# Altium schematic symbol library CP2102N-A02-GQFN20.Schlib: 1 symbol
Pins are listed as number, name and electrical type; pins without a type are passive.

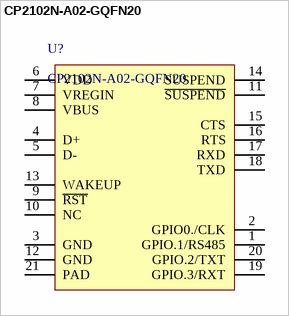
[diagram p0: symbol CP2102N-A02-GQFN20]

## CP2102N-A02-GQFN20
designator U?
USB Bridge, USB to UART USB 2.0 UART Interface 20-QFN (3x3)
pins: 1 GPIO.1/RS485, 2 GPIO0./CLK, 3 GND, 4 D+, 5 D-, 6 VDD, 7 VREGIN, 8 VBUS, 9 ~{RST}, 10 NC, 11 ~{SUSPEND}, 12 GND, 13 WAKEUP, 14 SUSPEND, 15 CTS, 16 RTS, 17 RXD, 18 TXD, 19 GPIO.3/RXT, 20 GPIO.2/TXT, 21 PAD